# Altium schematic symbol library Resistors-0402.SchLib: 59 symbols
Pins are listed as number, name and electrical type; pins without a type are passive.

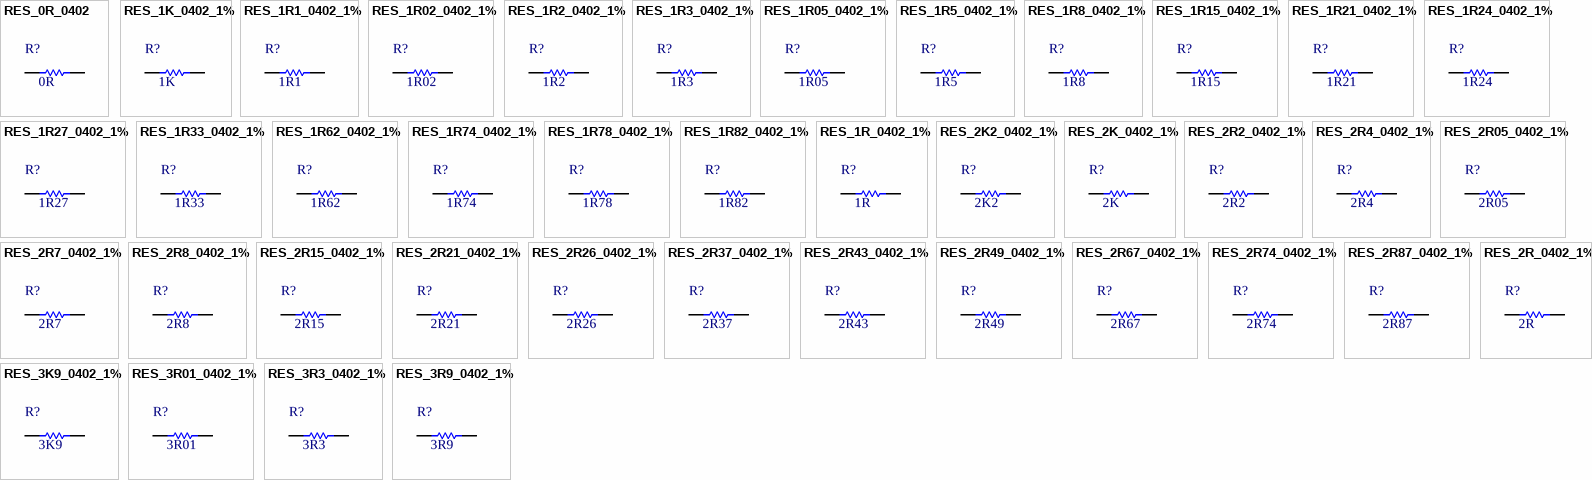
[diagram p0: symbols RES_0R_0402 to RES_3R9_0402_1%]

## RES_0R_0402
designator R?, comment value 0R  (hidden comment: 0R 0402)
0R 0402 (1005 Metric); Manufacturer: KOA Speer; PartNumber: RK73Z1ETTP; Tolerance: None; Power: None; Mounting Technology: Surface Mount; PackageReference: 0402; PackageDescription: 0402 (1005 Metric); ComponentLink1Description: Datasheet; ComponentLink1URL: http://www.koaspeer.com/catimages/Products/RK73Z/RK73Z.pdf
footprint R0402[1005] (Chip Resistor, Body 1.0x0.5mm)
pins: 1, 2

## RES_1K_0402_1%
designator R?, comment value 1K  (hidden comment: 1K 1% 0402)
1K 0.063W 1% 0402 (1005 Metric); Manufacturer: KOA Speer; PartNumber: RK73H1ETTP1001F; Tolerance: 1%; Power: 0.063W; Mounting Technology: Surface Mount; PackageReference: 0402; PackageDescription: 0402 (1005 Metric); ComponentLink1Description: Datasheet; ComponentLink1URL: http://www.koaspeer.com/catimages/Products/RK73H/RK73H.pdf
footprint R0402[1005] (Chip Resistor, Body 1.0x0.5mm)
pins: 1, 2

## RES_1R1_0402_1%
designator R?, comment value 1R1  (hidden comment: 1R1 1% 0402)
1R1 0.063W 1% 0402 (1005 Metric); Manufacturer: KOA Speer; PartNumber: RK73H1ETTP1R10F; Tolerance: 1%; Power: 0.063W; Mounting Technology: Surface Mount; PackageReference: 0402; PackageDescription: 0402 (1005 Metric); ComponentLink1Description: Datasheet; ComponentLink1URL: http://www.koaspeer.com/catimages/Products/RK73H/RK73H.pdf
footprint R0402[1005] (Chip Resistor, Body 1.0x0.5mm)
pins: 1, 2

## RES_1R02_0402_1%
designator R?, comment value 1R02  (hidden comment: 1R02 1% 0402)
1R02 0.063W 1% 0402 (1005 Metric); Manufacturer: KOA Speer; PartNumber: RK73H1ETTP1R02F; Tolerance: 1%; Power: 0.063W; Mounting Technology: Surface Mount; PackageReference: 0402; PackageDescription: 0402 (1005 Metric); ComponentLink1Description: Datasheet; ComponentLink1URL: http://www.koaspeer.com/catimages/Products/RK73H/RK73H.pdf
footprint R0402[1005] (Chip Resistor, Body 1.0x0.5mm)
pins: 1, 2

## RES_1R2_0402_1%
designator R?, comment value 1R2  (hidden comment: 1R2 1% 0402)
1R2 0.063W 1% 0402 (1005 Metric); Manufacturer: KOA Speer; PartNumber: RK73H1ETTP1R20F; Tolerance: 1%; Power: 0.063W; Mounting Technology: Surface Mount; PackageReference: 0402; PackageDescription: 0402 (1005 Metric); ComponentLink1Description: Datasheet; ComponentLink1URL: http://www.koaspeer.com/catimages/Products/RK73H/RK73H.pdf
footprint R0402[1005] (Chip Resistor, Body 1.0x0.5mm)
pins: 1, 2

## RES_1R3_0402_1%
designator R?, comment value 1R3  (hidden comment: 1R3 1% 0402)
1R3 0.063W 1% 0402 (1005 Metric); Manufacturer: KOA Speer; PartNumber: RK73H1ETTP1R30F; Tolerance: 1%; Power: 0.063W; Mounting Technology: Surface Mount; PackageReference: 0402; PackageDescription: 0402 (1005 Metric); ComponentLink1Description: Datasheet; ComponentLink1URL: http://www.koaspeer.com/catimages/Products/RK73H/RK73H.pdf
footprint R0402[1005] (Chip Resistor, Body 1.0x0.5mm)
pins: 1, 2

## RES_1R05_0402_1%
designator R?, comment value 1R05  (hidden comment: 1R05 1% 0402)
1R05 0.063W 1% 0402 (1005 Metric); Manufacturer: KOA Speer; PartNumber: RK73H1ETTP1R05F; Tolerance: 1%; Power: 0.063W; Mounting Technology: Surface Mount; PackageReference: 0402; PackageDescription: 0402 (1005 Metric); ComponentLink1Description: Datasheet; ComponentLink1URL: http://www.koaspeer.com/catimages/Products/RK73H/RK73H.pdf
footprint R0402[1005] (Chip Resistor, Body 1.0x0.5mm)
pins: 1, 2

## RES_1R5_0402_1%
designator R?, comment value 1R5  (hidden comment: 1R5 1% 0402)
1R5 0.063W 1% 0402 (1005 Metric); Manufacturer: KOA Speer; PartNumber: RK73H1ETTP1R50F; Tolerance: 1%; Power: 0.063W; Mounting Technology: Surface Mount; PackageReference: 0402; PackageDescription: 0402 (1005 Metric); ComponentLink1Description: Datasheet; ComponentLink1URL: http://www.koaspeer.com/catimages/Products/RK73H/RK73H.pdf
footprint R0402[1005] (Chip Resistor, Body 1.0x0.5mm)
pins: 1, 2

## RES_1R8_0402_1%
designator R?, comment value 1R8  (hidden comment: 1R8 1% 0402)
1R8 0.063W 1% 0402 (1005 Metric); Manufacturer: KOA Speer; PartNumber: RK73H1ETTP1R80F; Tolerance: 1%; Power: 0.063W; Mounting Technology: Surface Mount; PackageReference: 0402; PackageDescription: 0402 (1005 Metric); ComponentLink1Description: Datasheet; ComponentLink1URL: http://www.koaspeer.com/catimages/Products/RK73H/RK73H.pdf
footprint R0402[1005] (Chip Resistor, Body 1.0x0.5mm)
pins: 1, 2

## RES_1R15_0402_1%
designator R?, comment value 1R15  (hidden comment: 1R15 1% 0402)
1R15 0.063W 1% 0402 (1005 Metric); Manufacturer: KOA Speer; PartNumber: RK73H1ETTP1R15F; Tolerance: 1%; Power: 0.063W; Mounting Technology: Surface Mount; PackageReference: 0402; PackageDescription: 0402 (1005 Metric); ComponentLink1Description: Datasheet; ComponentLink1URL: http://www.koaspeer.com/catimages/Products/RK73H/RK73H.pdf
footprint R0402[1005] (Chip Resistor, Body 1.0x0.5mm)
pins: 1, 2

## RES_1R21_0402_1%
designator R?, comment value 1R21  (hidden comment: 1R21 1% 0402)
1R21 0.063W 1% 0402 (1005 Metric); Manufacturer: KOA Speer; PartNumber: RK73H1ETTP1R21F; Tolerance: 1%; Power: 0.063W; Mounting Technology: Surface Mount; PackageReference: 0402; PackageDescription: 0402 (1005 Metric); ComponentLink1Description: Datasheet; ComponentLink1URL: http://www.koaspeer.com/catimages/Products/RK73H/RK73H.pdf
footprint R0402[1005] (Chip Resistor, Body 1.0x0.5mm)
pins: 1, 2

## RES_1R24_0402_1%
designator R?, comment value 1R24  (hidden comment: 1R24 1% 0402)
1R24 0.063W 1% 0402 (1005 Metric); Manufacturer: KOA Speer; PartNumber: RK73H1ETTP1R24F; Tolerance: 1%; Power: 0.063W; Mounting Technology: Surface Mount; PackageReference: 0402; PackageDescription: 0402 (1005 Metric); ComponentLink1Description: Datasheet; ComponentLink1URL: http://www.koaspeer.com/catimages/Products/RK73H/RK73H.pdf
footprint R0402[1005] (Chip Resistor, Body 1.0x0.5mm)
pins: 1, 2

## RES_1R27_0402_1%
designator R?, comment value 1R27  (hidden comment: 1R27 1% 0402)
1R27 0.063W 1% 0402 (1005 Metric); Manufacturer: KOA Speer; PartNumber: RK73H1ETTP1R27F; Tolerance: 1%; Power: 0.063W; Mounting Technology: Surface Mount; PackageReference: 0402; PackageDescription: 0402 (1005 Metric); ComponentLink1Description: Datasheet; ComponentLink1URL: http://www.koaspeer.com/catimages/Products/RK73H/RK73H.pdf
footprint R0402[1005] (Chip Resistor, Body 1.0x0.5mm)
pins: 1, 2

## RES_1R33_0402_1%
designator R?, comment value 1R33  (hidden comment: 1R33 1% 0402)
1R33 0.063W 1% 0402 (1005 Metric); Manufacturer: KOA Speer; PartNumber: RK73H1ETTP1R33F; Tolerance: 1%; Power: 0.063W; Mounting Technology: Surface Mount; PackageReference: 0402; PackageDescription: 0402 (1005 Metric); ComponentLink1Description: Datasheet; ComponentLink1URL: http://www.koaspeer.com/catimages/Products/RK73H/RK73H.pdf
footprint R0402[1005] (Chip Resistor, Body 1.0x0.5mm)
pins: 1, 2

## RES_1R62_0402_1%
designator R?, comment value 1R62  (hidden comment: 1R62 1% 0402)
1R62 0.063W 1% 0402 (1005 Metric); Manufacturer: KOA Speer; PartNumber: RK73H1ETTP1R62F; Tolerance: 1%; Power: 0.063W; Mounting Technology: Surface Mount; PackageReference: 0402; PackageDescription: 0402 (1005 Metric); ComponentLink1Description: Datasheet; ComponentLink1URL: http://www.koaspeer.com/catimages/Products/RK73H/RK73H.pdf
footprint R0402[1005] (Chip Resistor, Body 1.0x0.5mm)
pins: 1, 2

## RES_1R74_0402_1%
designator R?, comment value 1R74  (hidden comment: 1R74 1% 0402)
1R74 0.063W 1% 0402 (1005 Metric); Manufacturer: KOA Speer; PartNumber: RK73H1ETTP1R74F; Tolerance: 1%; Power: 0.063W; Mounting Technology: Surface Mount; PackageReference: 0402; PackageDescription: 0402 (1005 Metric); ComponentLink1Description: Datasheet; ComponentLink1URL: http://www.koaspeer.com/catimages/Products/RK73H/RK73H.pdf
footprint R0402[1005] (Chip Resistor, Body 1.0x0.5mm)
pins: 1, 2

## RES_1R78_0402_1%
designator R?, comment value 1R78  (hidden comment: 1R78 1% 0402)
1R78 0.063W 1% 0402 (1005 Metric); Manufacturer: KOA Speer; PartNumber: RK73H1ETTP1R78F; Tolerance: 1%; Power: 0.063W; Mounting Technology: Surface Mount; PackageReference: 0402; PackageDescription: 0402 (1005 Metric); ComponentLink1Description: Datasheet; ComponentLink1URL: http://www.koaspeer.com/catimages/Products/RK73H/RK73H.pdf
footprint R0402[1005] (Chip Resistor, Body 1.0x0.5mm)
pins: 1, 2

## RES_1R82_0402_1%
designator R?, comment value 1R82  (hidden comment: 1R82 1% 0402)
1R82 0.063W 1% 0402 (1005 Metric); Manufacturer: KOA Speer; PartNumber: RK73H1ETTP1R82F; Tolerance: 1%; Power: 0.063W; Mounting Technology: Surface Mount; PackageReference: 0402; PackageDescription: 0402 (1005 Metric); ComponentLink1Description: Datasheet; ComponentLink1URL: http://www.koaspeer.com/catimages/Products/RK73H/RK73H.pdf
footprint R0402[1005] (Chip Resistor, Body 1.0x0.5mm)
pins: 1, 2

## RES_1R_0402_1%
designator R?, comment value 1R  (hidden comment: 1R 1% 0402)
1R 0.063W 1% 0402 (1005 Metric); Manufacturer: KOA Speer; PartNumber: RK73H1ETTP1R00F; Tolerance: 1%; Power: 0.063W; Mounting Technology: Surface Mount; PackageReference: 0402; PackageDescription: 0402 (1005 Metric); ComponentLink1Description: Datasheet; ComponentLink1URL: http://www.koaspeer.com/catimages/Products/RK73H/RK73H.pdf
footprint R0402[1005] (Chip Resistor, Body 1.0x0.5mm)
pins: 1, 2

## RES_2K2_0402_1%
designator R?, comment value 2K2  (hidden comment: 2K2 1% 0402)
2K2 0.063W 1% 0402 (1005 Metric); Manufacturer: KOA Speer; PartNumber: RK73H1ETTP2201F; Tolerance: 1%; Power: 0.063W; Mounting Technology: Surface Mount; PackageReference: 0402; PackageDescription: 0402 (1005 Metric); ComponentLink1Description: Datasheet; ComponentLink1URL: http://www.koaspeer.com/catimages/Products/RK73H/RK73H.pdf
footprint R0402[1005] (Chip Resistor, Body 1.0x0.5mm)
pins: 1, 2

## RES_2K_0402_1%
designator R?, comment value 2K  (hidden comment: 2K 1% 0402)
2K 0.063W 1% 0402 (1005 Metric); Manufacturer: KOA Speer; PartNumber: RK73H1ETTP2001F; Tolerance: 1%; Power: 0.063W; Mounting Technology: Surface Mount; PackageReference: 0402; PackageDescription: 0402 (1005 Metric); ComponentLink1Description: Datasheet; ComponentLink1URL: http://www.koaspeer.com/catimages/Products/RK73H/RK73H.pdf
footprint R0402[1005] (Chip Resistor, Body 1.0x0.5mm)
pins: 1, 2

## RES_2R2_0402_1%
designator R?, comment value 2R2  (hidden comment: 2R2 1% 0402)
2R2 0.063W 1% 0402 (1005 Metric); Manufacturer: KOA Speer; PartNumber: RK73H1ETTP2R20F; Tolerance: 1%; Power: 0.063W; Mounting Technology: Surface Mount; PackageReference: 0402; PackageDescription: 0402 (1005 Metric); ComponentLink1Description: Datasheet; ComponentLink1URL: http://www.koaspeer.com/catimages/Products/RK73H/RK73H.pdf
footprint R0402[1005] (Chip Resistor, Body 1.0x0.5mm)
pins: 1, 2

## RES_2R4_0402_1%
designator R?, comment value 2R4  (hidden comment: 2R4 1% 0402)
2R4 0.063W 1% 0402 (1005 Metric); Manufacturer: KOA Speer; PartNumber: RK73H1ETTP2R40F; Tolerance: 1%; Power: 0.063W; Mounting Technology: Surface Mount; PackageReference: 0402; PackageDescription: 0402 (1005 Metric); ComponentLink1Description: Datasheet; ComponentLink1URL: http://www.koaspeer.com/catimages/Products/RK73H/RK73H.pdf
footprint R0402[1005] (Chip Resistor, Body 1.0x0.5mm)
pins: 1, 2

## RES_2R05_0402_1%
designator R?, comment value 2R05  (hidden comment: 2R05 1% 0402)
2R05 0.063W 1% 0402 (1005 Metric); Manufacturer: KOA Speer; PartNumber: RK73H1ETTP2R05F; Tolerance: 1%; Power: 0.063W; Mounting Technology: Surface Mount; PackageReference: 0402; PackageDescription: 0402 (1005 Metric); ComponentLink1Description: Datasheet; ComponentLink1URL: http://www.koaspeer.com/catimages/Products/RK73H/RK73H.pdf
footprint R0402[1005] (Chip Resistor, Body 1.0x0.5mm)
pins: 1, 2

## RES_2R7_0402_1%
designator R?, comment value 2R7  (hidden comment: 2R7 1% 0402)
2R7 0.063W 1% 0402 (1005 Metric); Manufacturer: KOA Speer; PartNumber: RK73H1ETTP2R70F; Tolerance: 1%; Power: 0.063W; Mounting Technology: Surface Mount; PackageReference: 0402; PackageDescription: 0402 (1005 Metric); ComponentLink1Description: Datasheet; ComponentLink1URL: http://www.koaspeer.com/catimages/Products/RK73H/RK73H.pdf
footprint R0402[1005] (Chip Resistor, Body 1.0x0.5mm)
pins: 1, 2

## RES_2R8_0402_1%
designator R?, comment value 2R8  (hidden comment: 2R8 1% 0402)
2R8 0.063W 1% 0402 (1005 Metric); Manufacturer: KOA Speer; PartNumber: RK73H1ETTP2R80F; Tolerance: 1%; Power: 0.063W; Mounting Technology: Surface Mount; PackageReference: 0402; PackageDescription: 0402 (1005 Metric); ComponentLink1Description: Datasheet; ComponentLink1URL: http://www.koaspeer.com/catimages/Products/RK73H/RK73H.pdf
footprint R0402[1005] (Chip Resistor, Body 1.0x0.5mm)
pins: 1, 2

## RES_2R15_0402_1%
designator R?, comment value 2R15  (hidden comment: 2R15 1% 0402)
2R15 0.063W 1% 0402 (1005 Metric); Manufacturer: KOA Speer; PartNumber: RK73H1ETTP2R15F; Tolerance: 1%; Power: 0.063W; Mounting Technology: Surface Mount; PackageReference: 0402; PackageDescription: 0402 (1005 Metric); ComponentLink1Description: Datasheet; ComponentLink1URL: http://www.koaspeer.com/catimages/Products/RK73H/RK73H.pdf
footprint R0402[1005] (Chip Resistor, Body 1.0x0.5mm)
pins: 1, 2

## RES_2R21_0402_1%
designator R?, comment value 2R21  (hidden comment: 2R21 1% 0402)
2R21 0.063W 1% 0402 (1005 Metric); Manufacturer: KOA Speer; PartNumber: RK73H1ETTP2R21F; Tolerance: 1%; Power: 0.063W; Mounting Technology: Surface Mount; PackageReference: 0402; PackageDescription: 0402 (1005 Metric); ComponentLink1Description: Datasheet; ComponentLink1URL: http://www.koaspeer.com/catimages/Products/RK73H/RK73H.pdf
footprint R0402[1005] (Chip Resistor, Body 1.0x0.5mm)
pins: 1, 2

## RES_2R26_0402_1%
designator R?, comment value 2R26  (hidden comment: 2R26 1% 0402)
2R26 0.063W 1% 0402 (1005 Metric); Manufacturer: KOA Speer; PartNumber: RK73H1ETTP2R26F; Tolerance: 1%; Power: 0.063W; Mounting Technology: Surface Mount; PackageReference: 0402; PackageDescription: 0402 (1005 Metric); ComponentLink1Description: Datasheet; ComponentLink1URL: http://www.koaspeer.com/catimages/Products/RK73H/RK73H.pdf
footprint R0402[1005] (Chip Resistor, Body 1.0x0.5mm)
pins: 1, 2

## RES_2R37_0402_1%
designator R?, comment value 2R37  (hidden comment: 2R37 1% 0402)
2R37 0.063W 1% 0402 (1005 Metric); Manufacturer: KOA Speer; PartNumber: RK73H1ETTP2R37F; Tolerance: 1%; Power: 0.063W; Mounting Technology: Surface Mount; PackageReference: 0402; PackageDescription: 0402 (1005 Metric); ComponentLink1Description: Datasheet; ComponentLink1URL: http://www.koaspeer.com/catimages/Products/RK73H/RK73H.pdf
footprint R0402[1005] (Chip Resistor, Body 1.0x0.5mm)
pins: 1, 2

## RES_2R43_0402_1%
designator R?, comment value 2R43  (hidden comment: 2R43 1% 0402)
2R43 0.063W 1% 0402 (1005 Metric); Manufacturer: KOA Speer; PartNumber: RK73H1ETTP2R43F; Tolerance: 1%; Power: 0.063W; Mounting Technology: Surface Mount; PackageReference: 0402; PackageDescription: 0402 (1005 Metric); ComponentLink1Description: Datasheet; ComponentLink1URL: http://www.koaspeer.com/catimages/Products/RK73H/RK73H.pdf
footprint R0402[1005] (Chip Resistor, Body 1.0x0.5mm)
pins: 1, 2

## RES_2R49_0402_1%
designator R?, comment value 2R49  (hidden comment: 2R49 1% 0402)
2R49 0.063W 1% 0402 (1005 Metric); Manufacturer: KOA Speer; PartNumber: RK73H1ETTP2R49F; Tolerance: 1%; Power: 0.063W; Mounting Technology: Surface Mount; PackageReference: 0402; PackageDescription: 0402 (1005 Metric); ComponentLink1Description: Datasheet; ComponentLink1URL: http://www.koaspeer.com/catimages/Products/RK73H/RK73H.pdf
footprint R0402[1005] (Chip Resistor, Body 1.0x0.5mm)
pins: 1, 2

## RES_2R67_0402_1%
designator R?, comment value 2R67  (hidden comment: 2R67 1% 0402)
2R67 0.063W 1% 0402 (1005 Metric); Manufacturer: KOA Speer; PartNumber: RK73H1ETTP2R67F; Tolerance: 1%; Power: 0.063W; Mounting Technology: Surface Mount; PackageReference: 0402; PackageDescription: 0402 (1005 Metric); ComponentLink1Description: Datasheet; ComponentLink1URL: http://www.koaspeer.com/catimages/Products/RK73H/RK73H.pdf
footprint R0402[1005] (Chip Resistor, Body 1.0x0.5mm)
pins: 1, 2

## RES_2R74_0402_1%
designator R?, comment value 2R74  (hidden comment: 2R74 1% 0402)
2R74 0.063W 1% 0402 (1005 Metric); Manufacturer: KOA Speer; PartNumber: RK73H1ETTP2R74F; Tolerance: 1%; Power: 0.063W; Mounting Technology: Surface Mount; PackageReference: 0402; PackageDescription: 0402 (1005 Metric); ComponentLink1Description: Datasheet; ComponentLink1URL: http://www.koaspeer.com/catimages/Products/RK73H/RK73H.pdf
footprint R0402[1005] (Chip Resistor, Body 1.0x0.5mm)
pins: 1, 2

## RES_2R87_0402_1%
designator R?, comment value 2R87  (hidden comment: 2R87 1% 0402)
2R87 0.063W 1% 0402 (1005 Metric); Manufacturer: KOA Speer; PartNumber: RK73H1ETTP2R87F; Tolerance: 1%; Power: 0.063W; Mounting Technology: Surface Mount; PackageReference: 0402; PackageDescription: 0402 (1005 Metric); ComponentLink1Description: Datasheet; ComponentLink1URL: http://www.koaspeer.com/catimages/Products/RK73H/RK73H.pdf
footprint R0402[1005] (Chip Resistor, Body 1.0x0.5mm)
pins: 1, 2

## RES_2R_0402_1%
designator R?, comment value 2R  (hidden comment: 2R 1% 0402)
2R 0.063W 1% 0402 (1005 Metric); Manufacturer: KOA Speer; PartNumber: RK73H1ETTP2R00F; Tolerance: 1%; Power: 0.063W; Mounting Technology: Surface Mount; PackageReference: 0402; PackageDescription: 0402 (1005 Metric); ComponentLink1Description: Datasheet; ComponentLink1URL: http://www.koaspeer.com/catimages/Products/RK73H/RK73H.pdf
footprint R0402[1005] (Chip Resistor, Body 1.0x0.5mm)
pins: 1, 2

## RES_3K9_0402_1%
designator R?, comment value 3K9  (hidden comment: 3K9 1% 0402)
3K9 0.063W 1% 0402 (1005 Metric); Manufacturer: KOA Speer; PartNumber: RK73H1ETTP3901F; Tolerance: 1%; Power: 0.063W; Mounting Technology: Surface Mount; PackageReference: 0402; PackageDescription: 0402 (1005 Metric); ComponentLink1Description: Datasheet; ComponentLink1URL: http://www.koaspeer.com/catimages/Products/RK73H/RK73H.pdf
footprint R0402[1005] (Chip Resistor, Body 1.0x0.5mm)
pins: 1, 2

## RES_3R01_0402_1%
designator R?, comment value 3R01  (hidden comment: 3R01 1% 0402)
3R01 0.063W 1% 0402 (1005 Metric); Manufacturer: KOA Speer; PartNumber: RK73H1ETTP2R00F; Tolerance: 1%; Power: 0.063W; Mounting Technology: Surface Mount; PackageReference: 0402; PackageDescription: 0402 (1005 Metric); ComponentLink1Description: Datasheet; ComponentLink1URL: http://www.koaspeer.com/catimages/Products/RK73H/RK73H.pdf
footprint R0402[1005] (Chip Resistor, Body 1.0x0.5mm)
pins: 1, 2

## RES_3R3_0402_1%
designator R?, comment value 3R3  (hidden comment: 3R3 1% 0402)
3R3 0.063W 1% 0402 (1005 Metric); Manufacturer: KOA Speer; PartNumber: RK73H1ETTP2R00F; Tolerance: 1%; Power: 0.063W; Mounting Technology: Surface Mount; PackageReference: 0402; PackageDescription: 0402 (1005 Metric); ComponentLink1Description: Datasheet; ComponentLink1URL: http://www.koaspeer.com/catimages/Products/RK73H/RK73H.pdf
footprint R0402[1005] (Chip Resistor, Body 1.0x0.5mm)
pins: 1, 2

## RES_3R9_0402_1%
designator R?, comment value 3R9  (hidden comment: 3R9 1% 0402)
3R9 0.063W 1% 0402 (1005 Metric); Manufacturer: KOA Speer; PartNumber: RK73H1ETTP2R00F; Tolerance: 1%; Power: 0.063W; Mounting Technology: Surface Mount; PackageReference: 0402; PackageDescription: 0402 (1005 Metric); ComponentLink1Description: Datasheet; ComponentLink1URL: http://www.koaspeer.com/catimages/Products/RK73H/RK73H.pdf
footprint R0402[1005] (Chip Resistor, Body 1.0x0.5mm)
pins: 1, 2

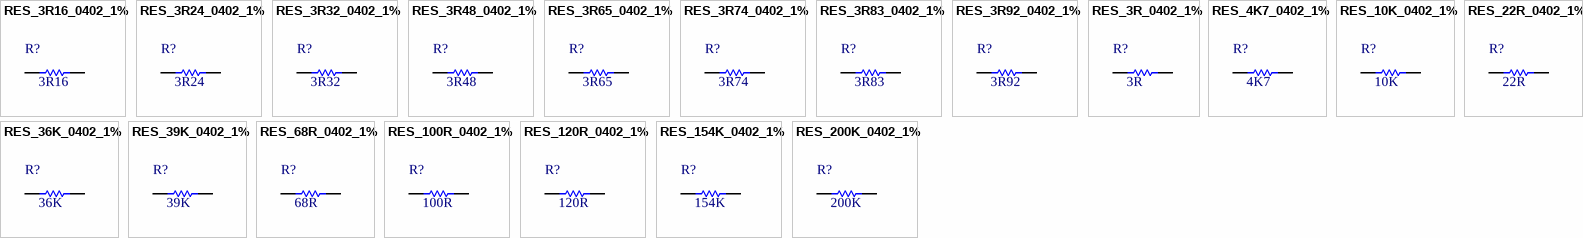
[diagram p1: symbols RES_3R16_0402_1% to RES_200K_0402_1%]

## RES_3R16_0402_1%
designator R?, comment value 3R16  (hidden comment: 3R16 1% 0402)
3R16 0.063W 1% 0402 (1005 Metric); Manufacturer: KOA Speer; PartNumber: RK73H1ETTP2R00F; Tolerance: 1%; Power: 0.063W; Mounting Technology: Surface Mount; PackageReference: 0402; PackageDescription: 0402 (1005 Metric); ComponentLink1Description: Datasheet; ComponentLink1URL: http://www.koaspeer.com/catimages/Products/RK73H/RK73H.pdf
footprint R0402[1005] (Chip Resistor, Body 1.0x0.5mm)
pins: 1, 2

## RES_3R24_0402_1%
designator R?, comment value 3R24  (hidden comment: 3R24 1% 0402)
3R24 0.063W 1% 0402 (1005 Metric); Manufacturer: KOA Speer; PartNumber: RK73H1ETTP2R00F; Tolerance: 1%; Power: 0.063W; Mounting Technology: Surface Mount; PackageReference: 0402; PackageDescription: 0402 (1005 Metric); ComponentLink1Description: Datasheet; ComponentLink1URL: http://www.koaspeer.com/catimages/Products/RK73H/RK73H.pdf
footprint R0402[1005] (Chip Resistor, Body 1.0x0.5mm)
pins: 1, 2

## RES_3R32_0402_1%
designator R?, comment value 3R32  (hidden comment: 3R32 1% 0402)
3R32 0.063W 1% 0402 (1005 Metric); Manufacturer: KOA Speer; PartNumber: RK73H1ETTP2R00F; Tolerance: 1%; Power: 0.063W; Mounting Technology: Surface Mount; PackageReference: 0402; PackageDescription: 0402 (1005 Metric); ComponentLink1Description: Datasheet; ComponentLink1URL: http://www.koaspeer.com/catimages/Products/RK73H/RK73H.pdf
footprint R0402[1005] (Chip Resistor, Body 1.0x0.5mm)
pins: 1, 2

## RES_3R48_0402_1%
designator R?, comment value 3R48  (hidden comment: 3R48 1% 0402)
3R48 0.063W 1% 0402 (1005 Metric); Manufacturer: KOA Speer; PartNumber: RK73H1ETTP2R00F; Tolerance: 1%; Power: 0.063W; Mounting Technology: Surface Mount; PackageReference: 0402; PackageDescription: 0402 (1005 Metric); ComponentLink1Description: Datasheet; ComponentLink1URL: http://www.koaspeer.com/catimages/Products/RK73H/RK73H.pdf
footprint R0402[1005] (Chip Resistor, Body 1.0x0.5mm)
pins: 1, 2

## RES_3R65_0402_1%
designator R?, comment value 3R65  (hidden comment: 3R65 1% 0402)
3R65 0.063W 1% 0402 (1005 Metric); Manufacturer: KOA Speer; PartNumber: RK73H1ETTP2R00F; Tolerance: 1%; Power: 0.063W; Mounting Technology: Surface Mount; PackageReference: 0402; PackageDescription: 0402 (1005 Metric); ComponentLink1Description: Datasheet; ComponentLink1URL: http://www.koaspeer.com/catimages/Products/RK73H/RK73H.pdf
footprint R0402[1005] (Chip Resistor, Body 1.0x0.5mm)
pins: 1, 2

## RES_3R74_0402_1%
designator R?, comment value 3R74  (hidden comment: 3R74 1% 0402)
3R74 0.063W 1% 0402 (1005 Metric); Manufacturer: KOA Speer; PartNumber: RK73H1ETTP2R00F; Tolerance: 1%; Power: 0.063W; Mounting Technology: Surface Mount; PackageReference: 0402; PackageDescription: 0402 (1005 Metric); ComponentLink1Description: Datasheet; ComponentLink1URL: http://www.koaspeer.com/catimages/Products/RK73H/RK73H.pdf
footprint R0402[1005] (Chip Resistor, Body 1.0x0.5mm)
pins: 1, 2

## RES_3R83_0402_1%
designator R?, comment value 3R83  (hidden comment: 3R83 1% 0402)
3R83 0.063W 1% 0402 (1005 Metric); Manufacturer: KOA Speer; PartNumber: RK73H1ETTP2R00F; Tolerance: 1%; Power: 0.063W; Mounting Technology: Surface Mount; PackageReference: 0402; PackageDescription: 0402 (1005 Metric); ComponentLink1Description: Datasheet; ComponentLink1URL: http://www.koaspeer.com/catimages/Products/RK73H/RK73H.pdf
footprint R0402[1005] (Chip Resistor, Body 1.0x0.5mm)
pins: 1, 2

## RES_3R92_0402_1%
designator R?, comment value 3R92  (hidden comment: 3R92 1% 0402)
3R92 0.063W 1% 0402 (1005 Metric); Manufacturer: KOA Speer; PartNumber: RK73H1ETTP2R00F; Tolerance: 1%; Power: 0.063W; Mounting Technology: Surface Mount; PackageReference: 0402; PackageDescription: 0402 (1005 Metric); ComponentLink1Description: Datasheet; ComponentLink1URL: http://www.koaspeer.com/catimages/Products/RK73H/RK73H.pdf
footprint R0402[1005] (Chip Resistor, Body 1.0x0.5mm)
pins: 1, 2

## RES_3R_0402_1%
designator R?, comment value 3R  (hidden comment: 3R 1% 0402)
3R 0.063W 1% 0402 (1005 Metric); Manufacturer: KOA Speer; PartNumber: RK73H1ETTP2R00F; Tolerance: 1%; Power: 0.063W; Mounting Technology: Surface Mount; PackageReference: 0402; PackageDescription: 0402 (1005 Metric); ComponentLink1Description: Datasheet; ComponentLink1URL: http://www.koaspeer.com/catimages/Products/RK73H/RK73H.pdf
footprint R0402[1005] (Chip Resistor, Body 1.0x0.5mm)
pins: 1, 2

## RES_4K7_0402_1%
designator R?, comment value 4K7  (hidden comment: 4K7 1% 0402)
4K7 0.063W 1% 0402 (1005 Metric); Manufacturer: KOA Speer; PartNumber: RK73H1ETTP4701F; Tolerance: 1%; Power: 0.063W; Mounting Technology: Surface Mount; PackageReference: 0402; PackageDescription: 0402 (1005 Metric); ComponentLink1Description: Datasheet; ComponentLink1URL: http://www.koaspeer.com/catimages/Products/RK73H/RK73H.pdf
footprint R0402[1005] (Chip Resistor, Body 1.0x0.5mm)
pins: 1, 2

## RES_10K_0402_1%
designator R?, comment value 10K  (hidden comment: 10K 1% 0402)
10K 0.063W 1% 0402 (1005 Metric); Manufacturer: KOA Speer; PartNumber: RK73H1ETTP1002F; Tolerance: 1%; Power: 0.063W; Mounting Technology: Surface Mount; PackageReference: 0402; PackageDescription: 0402 (1005 Metric); ComponentLink1Description: Datasheet; ComponentLink1URL: http://www.koaspeer.com/catimages/Products/RK73H/RK73H.pdf
footprint R0402[1005] (Chip Resistor, Body 1.0x0.5mm)
pins: 1, 2

## RES_22R_0402_1%
designator R?, comment value 22R  (hidden comment: 22R 1% 0402)
22R 0.063W 1% 0402 (1005 Metric); Manufacturer: KOA Speer; PartNumber: RK73H1ETTP22R0F; Tolerance: 1%; Power: 0.063W; Mounting Technology: Surface Mount; PackageReference: 0402; PackageDescription: 0402 (1005 Metric); ComponentLink1Description: Datasheet; ComponentLink1URL: http://www.koaspeer.com/catimages/Products/RK73H/RK73H.pdf
footprint R0402[1005] (Chip Resistor, Body 1.0x0.5mm)
pins: 1, 2

## RES_36K_0402_1%
designator R?, comment value 36K  (hidden comment: 36K 1% 0402)
36K 0.063W 1% 0402 (1005 Metric); Manufacturer: KOA Speer; PartNumber: RK73H1ETTP3602F; Tolerance: 1%; Power: 0.063W; Mounting Technology: Surface Mount; PackageReference: 0402; PackageDescription: 0402 (1005 Metric); ComponentLink1Description: Datasheet; ComponentLink1URL: http://www.koaspeer.com/catimages/Products/RK73H/RK73H.pdf
footprint R0402[1005] (Chip Resistor, Body 1.0x0.5mm)
pins: 1, 2

## RES_39K_0402_1%
designator R?, comment value 39K  (hidden comment: 39K 1% 0402)
39K 0.063W 1% 0402 (1005 Metric); Manufacturer: KOA Speer; PartNumber: RK73H1ETTP3902F; Tolerance: 1%; Power: 0.063W; Mounting Technology: Surface Mount; PackageReference: 0402; PackageDescription: 0402 (1005 Metric); ComponentLink1Description: Datasheet; ComponentLink1URL: http://www.koaspeer.com/catimages/Products/RK73H/RK73H.pdf
footprint R0402[1005] (Chip Resistor, Body 1.0x0.5mm)
pins: 1, 2

## RES_68R_0402_1%
designator R?, comment value 68R  (hidden comment: 68R 1% 0402)
68R 0.063W 1% 0402 (1005 Metric); Manufacturer: KOA Speer; PartNumber: RK73H1ETTP68R0F; Tolerance: 1%; Power: 0.063W; Mounting Technology: Surface Mount; PackageReference: 0402; PackageDescription: 0402 (1005 Metric); ComponentLink1Description: Datasheet; ComponentLink1URL: http://www.koaspeer.com/catimages/Products/RK73H/RK73H.pdf
footprint R0402[1005] (Chip Resistor, Body 1.0x0.5mm)
pins: 1, 2

## RES_100R_0402_1%
designator R?, comment value 100R  (hidden comment: 100R 1% 0402)
100R 0.063W 1% 0402 (1005 Metric); Manufacturer: KOA Speer; PartNumber: RK73H1ETTP1000F; Tolerance: 1%; Power: 0.063W; Mounting Technology: Surface Mount; PackageReference: 0402; PackageDescription: 0402 (1005 Metric); ComponentLink1Description: Datasheet; ComponentLink1URL: http://www.koaspeer.com/catimages/Products/RK73H/RK73H.pdf
footprint R0402[1005] (Chip Resistor, Body 1.0x0.5mm)
pins: 1, 2

## RES_120R_0402_1%
designator R?, comment value 120R  (hidden comment: 120R 1% 0402)
120R 0.063W 1% 0402 (1005 Metric); Manufacturer: KOA Speer; PartNumber: RK73H1ETTP1200F; Tolerance: 1%; Power: 0.063W; Mounting Technology: Surface Mount; PackageReference: 0402; PackageDescription: 0402 (1005 Metric); ComponentLink1Description: Datasheet; ComponentLink1URL: http://www.koaspeer.com/catimages/Products/RK73H/RK73H.pdf
footprint R0402[1005] (Chip Resistor, Body 1.0x0.5mm)
pins: 1, 2

## RES_154K_0402_1%
designator R?, comment value 154K  (hidden comment: 154K 1% 0402)
154K 0.063W 1% 0402 (1005 Metric); Manufacturer: KOA Speer; PartNumber: RK73H1ETTP1543F; Tolerance: 1%; Power: 0.063W; Mounting Technology: Surface Mount; PackageReference: 0402; PackageDescription: 0402 (1005 Metric); ComponentLink1Description: Datasheet; ComponentLink1URL: http://www.koaspeer.com/catimages/Products/RK73H/RK73H.pdf
footprint R0402[1005] (Chip Resistor, Body 1.0x0.5mm)
pins: 1, 2

## RES_200K_0402_1%
designator R?, comment value 200K  (hidden comment: 200K 1% 0402)
200K 0.063W 1% 0402 (1005 Metric); Manufacturer: KOA Speer; PartNumber: RK73H1ETTP2003F; Tolerance: 1%; Power: 0.063W; Mounting Technology: Surface Mount; PackageReference: 0402; PackageDescription: 0402 (1005 Metric); ComponentLink1Description: Datasheet; ComponentLink1URL: http://www.koaspeer.com/catimages/Products/RK73H/RK73H.pdf
footprint R0402[1005] (Chip Resistor, Body 1.0x0.5mm)
pins: 1, 2